# EAGLE library part KRBTQDLP61_RGB_LED (library ZHAW_BA)
RGB LED, 2,1V Rot, 3,2V Grün, 2,9V Blau @ 20mA KRBT QDLP61.3A-5B5C-CF DigiKey: Pt.Nr: 475-3482-1-ND https://www.digikey.ch/product-detail/de/osram-opto-semiconductors-inc/KRBT-QDLP61-3A-5B5C-CF/475-3482-1-ND/7907970
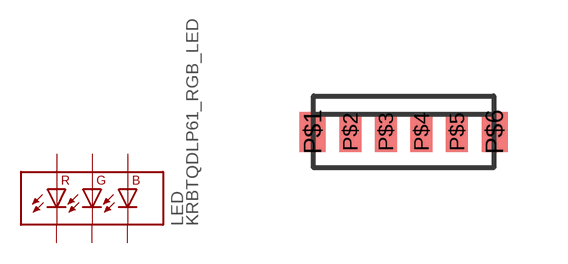
[diagram p7: symbol with the pads of KRBTQDLP61_RGB_LED; footprint KRBTQDLP61_RGB_LED]

Designator prefix LED

## KRBTQDLP61_RGB_LED  [KRBTQDLP61_RGB_LED]
P$1  GA  pas
P$2  BA  pas
P$3  GC  pas
P$4  BC  pas
P$5  RA  pas
P$6  RC  pas

## Footprint KRBTQDLP61_RGB_LED (pad centres in mm)
smd 0.65 x 1: P$1 -2.275,0; P$6 2.275,0
smd 0.55 x 1: P$2 -1.335,0; P$3 -0.445,0; P$4 0.445,0; P$5 1.335,0